# Altium schematic symbol library SN74HC4851PWR.SchLib: 1 symbol
Pins are listed as number, name and electrical type; pins without a type are passive.

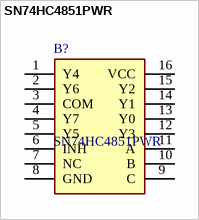
[diagram p0: symbol SN74HC4851PWR]

## SN74HC4851PWR
designator B?
Texas Instruments SN74HC4851PWR, Multiplexer/Demultiplexer Single 8:1, 3 V, 5 V, 16-Pin TSSOP; Geometry.Height: 1.2mm; Mouser Part Number: 595-SN74HC4851PWR; Mouser Price/Stock: https://www.mouser.co.uk/ProductDetail/Texas-Instruments/SN74HC4851PWR?qs=AgY10sKTvDJiHOKineifvQ%3D%3D; Manufacturer_Name: Texas Instruments; Manufacturer_Part_Number: SN74HC4851PWR; Datasheet Link: http://www.ti.com/lit/gpn/sn74hc4851
footprint SOP65P640X120-16N
pins: 1 Y4, 2 Y6, 3 COM, 4 Y7, 5 Y5, 6 INH, 7 NC, 8 GND, 9 C, 10 B, 11 A, 12 Y3, 13 Y0, 14 Y1, 15 Y2, 16 VCC